# Altium schematic symbol library LIB1.SchLib: 18 symbols
Pins are listed as number, name and electrical type; pins without a type are passive.

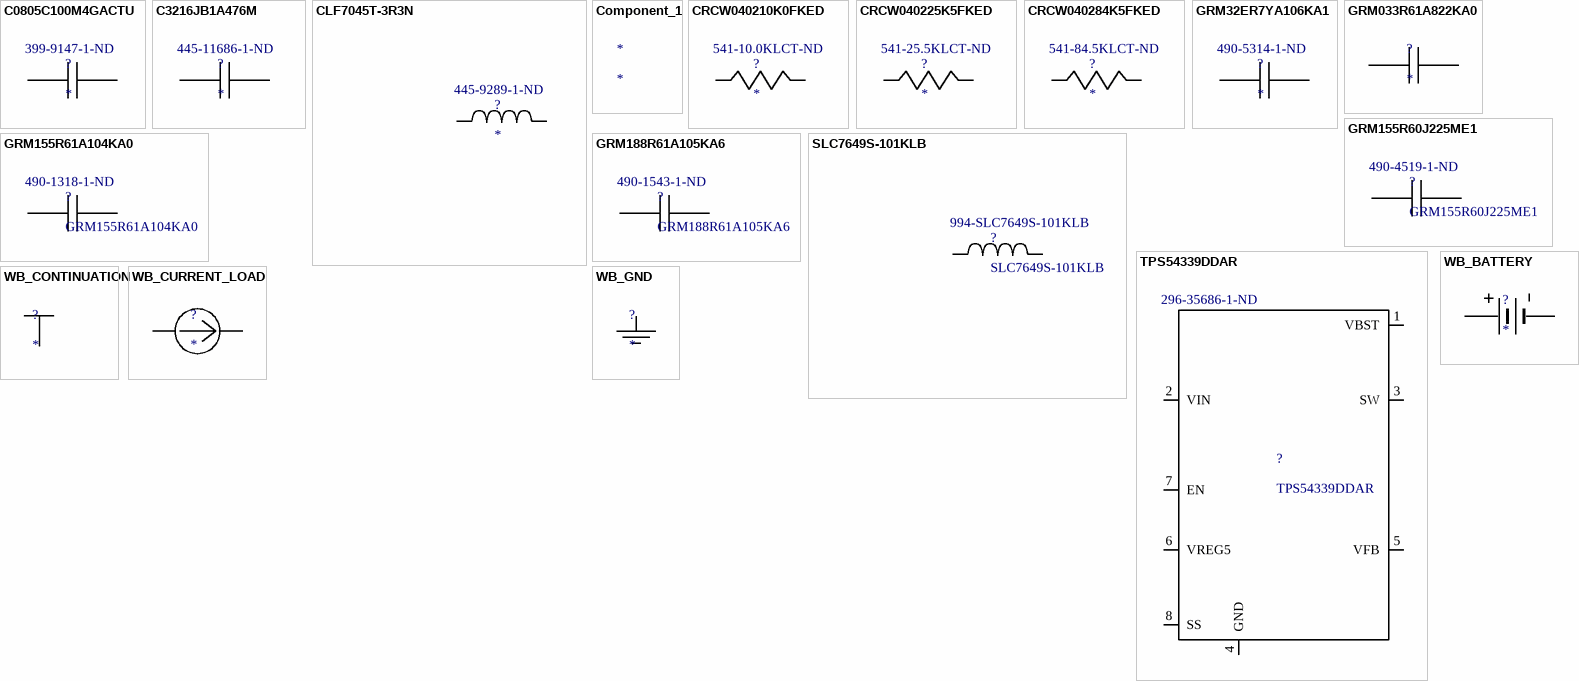
[diagram p0: symbols C0805C100M4GACTU to WB_GND]

## C0805C100M4GACTU
designator ?  Supplier Part Number 1: 399-9147-1-ND
Imported; Manufacturer_Part_Number: C0805C100M4GACTU; Vendor: Kemet; Manufacturer_Name: Kemet; RefDes: RefDes; TYPE: TYPE; Value: Value; Supplier 1: Digi-Key
footprint 0805
pins: 1, 2

## C3216JB1A476M
designator ?  Supplier Part Number 1: 445-11686-1-ND
Imported; Manufacturer_Part_Number: C3216JB1A476M; Vendor: TDK; Manufacturer_Name: TDK; RefDes: RefDes; TYPE: TYPE; Value: Value; Supplier 1: Digi-Key
footprint 1206
pins: 1, 2

## CLF7045T-3R3N
designator ?  Supplier Part Number 1: 445-9289-1-ND
Imported; Manufacturer_Part_Number: CLF7045T-3R3N; Vendor: TDK; PACKAGE_DESIGNATOR: CLF7045; Manufacturer: TDK; Manufacturer_Name: TDK; RefDes: RefDes; TYPE: TYPE; Value: Value; Supplier 1: Digi-Key
footprint CLF7045
pins: 1, 2

## Component_1
designator *

## CRCW040210K0FKED
designator ?  Supplier Part Number 1: 541-10.0KLCT-ND
Imported; Manufacturer_Part_Number: CRCW040210K0FKED; Vendor: Vishay-Dale; Manufacturer_Name: Vishay-Dale; RefDes: RefDes; TYPE: TYPE; Value: Value; Supplier 1: Digi-Key
footprint 0402
pins: 1, 2

## CRCW040225K5FKED
designator ?  Supplier Part Number 1: 541-25.5KLCT-ND
Imported; Manufacturer_Part_Number: CRCW040225K5FKED; Vendor: Vishay-Dale; Manufacturer_Name: Vishay-Dale; RefDes: RefDes; TYPE: TYPE; Value: Value; Supplier 1: Digi-Key
footprint 0402
pins: 1, 2

## CRCW040284K5FKED
designator ?  Supplier Part Number 1: 541-84.5KLCT-ND
Imported; Manufacturer_Part_Number: CRCW040284K5FKED; Vendor: Vishay-Dale; Manufacturer_Name: Vishay-Dale; RefDes: RefDes; TYPE: TYPE; Value: Value; Supplier 1: Digi-Key
footprint 0402
pins: 1, 2

## GRM32ER7YA106KA1
designator ?  Supplier Part Number 1: 490-5314-1-ND
Imported; Manufacturer_Part_Number: GRM32ER7YA106KA12L; Vendor: MuRata; Manufacturer_Name: MuRata; RefDes: RefDes; TYPE: TYPE; Value: Value; Supplier 1: Digi-Key
footprint 1210_280
pins: 1, 2

## GRM033R61A822KA0
designator ?
Imported; Manufacturer_Part_Number: GRM033R61A822KA01D; Vendor: MuRata; Manufacturer_Name: MuRata; RefDes: RefDes; TYPE: TYPE; Value: Value
footprint 0201
pins: 1, 2

## GRM155R60J225ME1
designator ?  Supplier Part Number 1: 490-4519-1-ND
Imported; Manufacturer_Part_Number: GRM155R60J225ME15D; Vendor: MuRata; Manufacturer_Name: MuRata; RefDes: RefDes; TYPE: TYPE; Value: Value; Supplier 1: Digi-Key
footprint 0402
pins: 1, 2

## GRM155R61A104KA0
designator ?  Supplier Part Number 1: 490-1318-1-ND
Imported; Manufacturer_Part_Number: GRM155R61A104KA01D; Vendor: MuRata; Manufacturer_Name: MuRata; RefDes: RefDes; TYPE: TYPE; Value: Value; Supplier 1: Digi-Key
footprint 0402
pins: 1, 2

## GRM188R61A105KA6
designator ?  Supplier Part Number 1: 490-1543-1-ND
Imported; Manufacturer_Part_Number: GRM188R61A105KA61D; Vendor: MuRata; Manufacturer_Name: MuRata; RefDes: RefDes; TYPE: TYPE; Value: Value; Supplier 1: Digi-Key
footprint 0603
pins: 1, 2

## SLC7649S-101KLB
designator ?  Supplier Part Number 1: 994-SLC7649S-101KLB
Imported; Vendor: Coilcraft; Manufacturer_Part_Number: SLC7649S-101KLB; Manufacturer_Name: Coilcraft; RefDes: RefDes; TYPE: TYPE; Value: Value; Supplier 1: Mouser
footprint SLC7649
pins: 1, 2

## TPS54339DDAR
designator ?  Supplier Part Number 1: 296-35686-1-ND
Imported; Manufacturer_Part_Number: TPS54229DDAR; Vendor: Texas Instruments; Manufacturer_Name: Texas Instruments; RefDes: RefDes; TYPE: TYPE; Value: Value; Supplier 1: Digi-Key
footprint DDA0008E
pins: 1 VBST, 2 VIN, 3 SW, 4 GND, 5 VFB, 6 VREG5, 7 EN, 8 SS, 9 GND

## WB_BATTERY
designator ?
Imported; Manufacturer_Part_Number: WB_BATTERY; PowerPortType: POWER_GROUND; Value: Value; Manufacturer_Name: WB_BATTERY; RefDes: RefDes; TYPE: TYPE
pins: 1 +, 2 -

## WB_CONTINUATION
designator ?
Imported; Manufacturer_Part_Number: WB_CONTINUATION; PowerPortType: POWER_GROUND; Value: Value; Manufacturer_Name: WB_CONTINUATION; RefDes: RefDes; TYPE: TYPE
pins: 1 Node

## WB_CURRENT_LOAD
designator ?
Imported; Manufacturer_Part_Number: WB_CURRENT_LOAD; PowerPortType: POWER_GROUND; Value: Value; Manufacturer_Name: WB_CURRENT_LOAD; RefDes: RefDes; TYPE: TYPE
pins: 1 +, 2 -

## WB_GND
designator ?
Imported; Manufacturer_Part_Number: WB_GND; PowerPortType: POWER_GROUND; Value: Value; Manufacturer_Name: WB_GND; RefDes: RefDes; TYPE: TYPE
pins: 1